# Altium schematic symbol library 1206W4F1003T5E.SchLib: 1 symbol
Pins are listed as number, name and electrical type; pins without a type are passive.

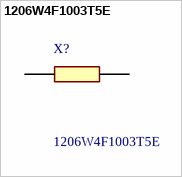
[diagram p0: symbol 1206W4F1003T5E]

## 1206W4F1003T5E
designator X?
Chip Resistor - Surface Mount 100KOhms +/-1% 1/4W 1206 RoHS; Manufacturer_Name: Uniroyal Elec; Geometry.Height: 0.65mm; Manufacturer_Part_Number: 1206W4F1003T5E; Mouser Part Number: *; Mouser Price/Stock: *; Arrow Part Number: *; Arrow Price/Stock: *; Datasheet Link: https://datasheet.lcsc.com/szlcsc/Uniroyal-Elec-1206W4F1003T5E_C17900.pdf
footprint RESC3116X65N
pins: 1, 2